# Altium footprint library WA-SMST.PcbLib: 54 footprints (part 4 of 4)
Each footprint in its own frame and in the unit in brackets; x right, y up, seen from the top. Pads: shape width x height; smd on the part's side, far side on the other; paste and mask are expansions set on the pad; w line width, h text height; cw(c..) or ccw(c..) is an arc to the next point about the centre after c.
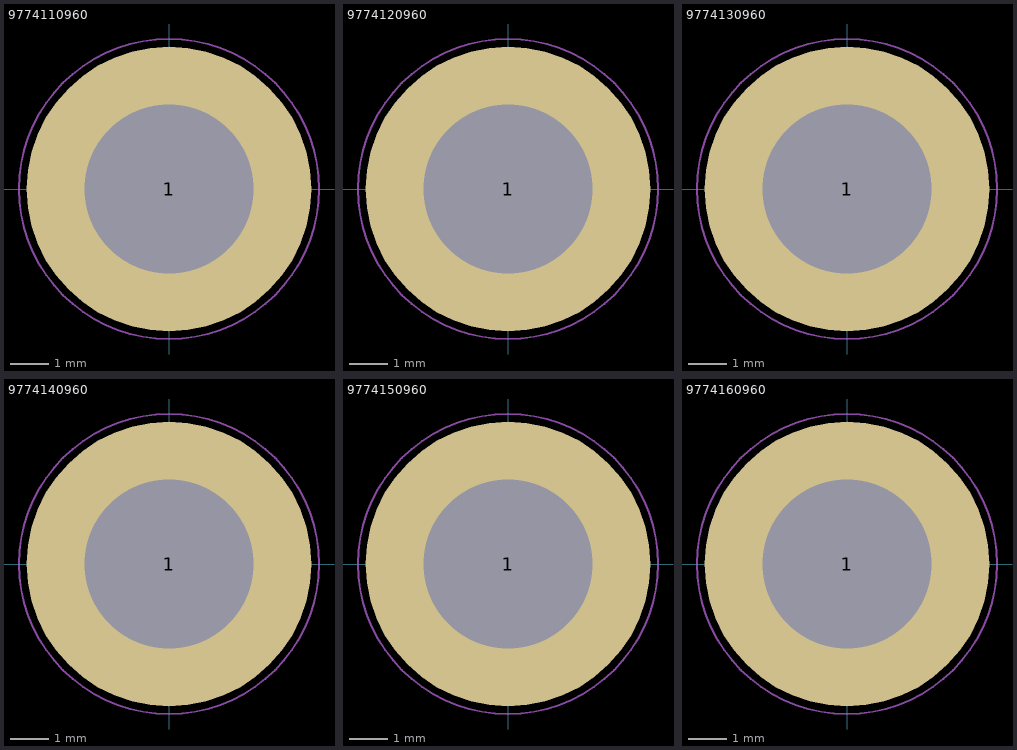
[diagram p3: the footprints below, top view; thin cyan lines are the x and y axes]

## 9774110960 [mm] "SMT Steel Spacer Internal hole diameter 3.3mm non stop, height 11mm"
height 11
pads (1):
  round 7.4 / inner round 0 / far side round 0 hole 4.4 unplated: 1(0,0)
Top Paste:
  region: -3.613,0.4 -2.204,0.4 -2.167,0.566 -2.057,0.886 -1.9,1.186 -1.699,1.46 -1.46,1.699 -1.186,1.9 -0.886,2.057 -0.566,2.167 -0.4,2.204 -0.4,3.613 -0.603,3.59 -1.003,3.5 -1.389,3.365 -1.759,3.188 -2.105,2.97 -2.426,2.715 -2.715,2.426 -2.97,2.105 -3.188,1.759 -3.365,1.389 -3.5,1.003 -3.59,0.603
  region: -0.4,-3.613 -0.4,-2.204 -0.566,-2.167 -0.886,-2.057 -1.186,-1.9 -1.46,-1.699 -1.699,-1.46 -1.9,-1.186 -2.057,-0.886 -2.167,-0.566 -2.204,-0.4 -3.613,-0.4 -3.59,-0.603 -3.5,-1.003 -3.365,-1.389 -3.188,-1.759 -2.97,-2.105 -2.715,-2.426 -2.426,-2.715 -2.105,-2.97 -1.759,-3.188 -1.389,-3.365 -1.003,-3.5 -0.603,-3.59
  region: 3.613,-0.4 2.204,-0.4 2.167,-0.566 2.057,-0.886 1.9,-1.186 1.699,-1.46 1.46,-1.699 1.186,-1.9 0.886,-2.057 0.566,-2.167 0.4,-2.204 0.4,-3.613 0.603,-3.59 1.003,-3.5 1.389,-3.365 1.759,-3.188 2.105,-2.97 2.426,-2.715 2.715,-2.426 2.97,-2.105 3.188,-1.759 3.365,-1.389 3.5,-1.003 3.59,-0.603
  region: 0.4,3.613 0.4,2.204 0.566,2.167 0.886,2.057 1.186,1.9 1.46,1.699 1.699,1.46 1.9,1.186 2.057,0.886 2.167,0.566 2.204,0.4 3.613,0.4 3.59,0.603 3.5,1.003 3.365,1.389 3.188,1.759 2.97,2.105 2.715,2.426 2.426,2.715 2.105,2.97 1.759,3.188 1.389,3.365 1.003,3.5 0.603,3.59
Top Designator:
  text ".Designator" at -7.498,-0.5 h1.5
Top Component Outline:
  circle w0.1: c0,0 r3
Top 3D Body:
  circle w0.1: c0,0 r3
Top Courtyard:
  circle w0.05: c0,0 r3.9
  lines w0.05: -0.5,0 0.5,0 ; 0,-0.5 0,0.5
3D body "9774110960.stp": height 11, standoff -1.4, extent -3,-3 3,3

## 9774120960 [mm] "SMT Steel Spacer Internal hole diameter 3.3mm non stop, height 12mm"
height 12
pads (1):
  round 7.4 / inner round 0 / far side round 0 hole 4.4 unplated: 1(0,0)
Top Paste:
  region: 0.4,3.613 0.4,2.204 0.566,2.167 0.886,2.057 1.186,1.9 1.46,1.699 1.699,1.46 1.9,1.186 2.057,0.886 2.167,0.566 2.204,0.4 3.613,0.4 3.59,0.603 3.5,1.003 3.365,1.389 3.188,1.759 2.97,2.105 2.715,2.426 2.426,2.715 2.105,2.97 1.759,3.188 1.389,3.365 1.003,3.5 0.603,3.59
  region: 3.613,-0.4 2.204,-0.4 2.167,-0.566 2.057,-0.886 1.9,-1.186 1.699,-1.46 1.46,-1.699 1.186,-1.9 0.886,-2.057 0.566,-2.167 0.4,-2.204 0.4,-3.613 0.603,-3.59 1.003,-3.5 1.389,-3.365 1.759,-3.188 2.105,-2.97 2.426,-2.715 2.715,-2.426 2.97,-2.105 3.188,-1.759 3.365,-1.389 3.5,-1.003 3.59,-0.603
  region: -0.4,-3.613 -0.4,-2.204 -0.566,-2.167 -0.886,-2.057 -1.186,-1.9 -1.46,-1.699 -1.699,-1.46 -1.9,-1.186 -2.057,-0.886 -2.167,-0.566 -2.204,-0.4 -3.613,-0.4 -3.59,-0.603 -3.5,-1.003 -3.365,-1.389 -3.188,-1.759 -2.97,-2.105 -2.715,-2.426 -2.426,-2.715 -2.105,-2.97 -1.759,-3.188 -1.389,-3.365 -1.003,-3.5 -0.603,-3.59
  region: -3.613,0.4 -2.204,0.4 -2.167,0.566 -2.057,0.886 -1.9,1.186 -1.699,1.46 -1.46,1.699 -1.186,1.9 -0.886,2.057 -0.566,2.167 -0.4,2.204 -0.4,3.613 -0.603,3.59 -1.003,3.5 -1.389,3.365 -1.759,3.188 -2.105,2.97 -2.426,2.715 -2.715,2.426 -2.97,2.105 -3.188,1.759 -3.365,1.389 -3.5,1.003 -3.59,0.603
Top Designator:
  text ".Designator" at -7.498,-0.5 h1.5
Top Component Outline:
  circle w0.1: c0,0 r3
Top 3D Body:
  circle w0.1: c0,0 r3
Top Courtyard:
  circle w0.05: c0,0 r3.9
  lines w0.05: -0.5,0 0.5,0 ; 0,-0.5 0,0.5
3D body "9774120960.stp": height 12, standoff -1.4, extent -3,-3 3,3

## 9774130960 [mm] "SMT Steel Spacer Internal hole diameter 3.3mm non stop, height 13mm"
height 13
pads (1):
  round 7.4 / inner round 0 / far side round 0 hole 4.4 unplated: 1(0,0)
Top Paste:
  region: 0.4,3.613 0.4,2.204 0.566,2.167 0.886,2.057 1.186,1.9 1.46,1.699 1.699,1.46 1.9,1.186 2.057,0.886 2.167,0.566 2.204,0.4 3.613,0.4 3.59,0.603 3.5,1.003 3.365,1.389 3.188,1.759 2.97,2.105 2.715,2.426 2.426,2.715 2.105,2.97 1.759,3.188 1.389,3.365 1.003,3.5 0.603,3.59
  region: 3.613,-0.4 2.204,-0.4 2.167,-0.566 2.057,-0.886 1.9,-1.186 1.699,-1.46 1.46,-1.699 1.186,-1.9 0.886,-2.057 0.566,-2.167 0.4,-2.204 0.4,-3.613 0.603,-3.59 1.003,-3.5 1.389,-3.365 1.759,-3.188 2.105,-2.97 2.426,-2.715 2.715,-2.426 2.97,-2.105 3.188,-1.759 3.365,-1.389 3.5,-1.003 3.59,-0.603
  region: -0.4,-3.613 -0.4,-2.204 -0.566,-2.167 -0.886,-2.057 -1.186,-1.9 -1.46,-1.699 -1.699,-1.46 -1.9,-1.186 -2.057,-0.886 -2.167,-0.566 -2.204,-0.4 -3.613,-0.4 -3.59,-0.603 -3.5,-1.003 -3.365,-1.389 -3.188,-1.759 -2.97,-2.105 -2.715,-2.426 -2.426,-2.715 -2.105,-2.97 -1.759,-3.188 -1.389,-3.365 -1.003,-3.5 -0.603,-3.59
  region: -3.613,0.4 -2.204,0.4 -2.167,0.566 -2.057,0.886 -1.9,1.186 -1.699,1.46 -1.46,1.699 -1.186,1.9 -0.886,2.057 -0.566,2.167 -0.4,2.204 -0.4,3.613 -0.603,3.59 -1.003,3.5 -1.389,3.365 -1.759,3.188 -2.105,2.97 -2.426,2.715 -2.715,2.426 -2.97,2.105 -3.188,1.759 -3.365,1.389 -3.5,1.003 -3.59,0.603
Top Designator:
  text ".Designator" at -7.498,-0.5 h1.5
Top Component Outline:
  circle w0.1: c0,0 r3
Top 3D Body:
  circle w0.1: c0,0 r3
Top Courtyard:
  circle w0.05: c0,0 r3.9
  lines w0.05: -0.5,0 0.5,0 ; 0,-0.5 0,0.5
3D body "9774130960.stp": height 13, standoff -1.4, extent -3,-3 3,3

## 9774140960 [mm] "SMT Steel Spacer Internal hole diameter 3.3mm non stop, height 14mm"
height 14
pads (1):
  round 7.4 / inner round 0 / far side round 0 hole 4.4 unplated: 1(0,0)
Top Paste:
  region: -3.613,0.4 -2.204,0.4 -2.167,0.566 -2.057,0.886 -1.9,1.186 -1.699,1.46 -1.46,1.699 -1.186,1.9 -0.886,2.057 -0.566,2.167 -0.4,2.204 -0.4,3.613 -0.603,3.59 -1.003,3.5 -1.389,3.365 -1.759,3.188 -2.105,2.97 -2.426,2.715 -2.715,2.426 -2.97,2.105 -3.188,1.759 -3.365,1.389 -3.5,1.003 -3.59,0.603
  region: -0.4,-3.613 -0.4,-2.204 -0.566,-2.167 -0.886,-2.057 -1.186,-1.9 -1.46,-1.699 -1.699,-1.46 -1.9,-1.186 -2.057,-0.886 -2.167,-0.566 -2.204,-0.4 -3.613,-0.4 -3.59,-0.603 -3.5,-1.003 -3.365,-1.389 -3.188,-1.759 -2.97,-2.105 -2.715,-2.426 -2.426,-2.715 -2.105,-2.97 -1.759,-3.188 -1.389,-3.365 -1.003,-3.5 -0.603,-3.59
  region: 3.613,-0.4 2.204,-0.4 2.167,-0.566 2.057,-0.886 1.9,-1.186 1.699,-1.46 1.46,-1.699 1.186,-1.9 0.886,-2.057 0.566,-2.167 0.4,-2.204 0.4,-3.613 0.603,-3.59 1.003,-3.5 1.389,-3.365 1.759,-3.188 2.105,-2.97 2.426,-2.715 2.715,-2.426 2.97,-2.105 3.188,-1.759 3.365,-1.389 3.5,-1.003 3.59,-0.603
  region: 0.4,3.613 0.4,2.204 0.566,2.167 0.886,2.057 1.186,1.9 1.46,1.699 1.699,1.46 1.9,1.186 2.057,0.886 2.167,0.566 2.204,0.4 3.613,0.4 3.59,0.603 3.5,1.003 3.365,1.389 3.188,1.759 2.97,2.105 2.715,2.426 2.426,2.715 2.105,2.97 1.759,3.188 1.389,3.365 1.003,3.5 0.603,3.59
Top Designator:
  text ".Designator" at -7.498,-0.5 h1.5
Top Component Outline:
  circle w0.1: c0,0 r3
Top 3D Body:
  circle w0.1: c0,0 r3
Top Courtyard:
  circle w0.05: c0,0 r3.9
  lines w0.05: -0.5,0 0.5,0 ; 0,-0.5 0,0.5
3D body "9774140960.stp": height 14, standoff -1.4, extent -3,-3 3,3

## 9774150960 [mm] "SMT Steel Spacer Internal hole diameter 3.3mm non stop, height 15mm"
height 15
pads (1):
  round 7.4 / inner round 0 / far side round 0 hole 4.4 unplated: 1(0,0)
Top Paste:
  region: 0.4,3.613 0.4,2.204 0.566,2.167 0.886,2.057 1.186,1.9 1.46,1.699 1.699,1.46 1.9,1.186 2.057,0.886 2.167,0.566 2.204,0.4 3.613,0.4 3.59,0.603 3.5,1.003 3.365,1.389 3.188,1.759 2.97,2.105 2.715,2.426 2.426,2.715 2.105,2.97 1.759,3.188 1.389,3.365 1.003,3.5 0.603,3.59
  region: 3.613,-0.4 2.204,-0.4 2.167,-0.566 2.057,-0.886 1.9,-1.186 1.699,-1.46 1.46,-1.699 1.186,-1.9 0.886,-2.057 0.566,-2.167 0.4,-2.204 0.4,-3.613 0.603,-3.59 1.003,-3.5 1.389,-3.365 1.759,-3.188 2.105,-2.97 2.426,-2.715 2.715,-2.426 2.97,-2.105 3.188,-1.759 3.365,-1.389 3.5,-1.003 3.59,-0.603
  region: -0.4,-3.613 -0.4,-2.204 -0.566,-2.167 -0.886,-2.057 -1.186,-1.9 -1.46,-1.699 -1.699,-1.46 -1.9,-1.186 -2.057,-0.886 -2.167,-0.566 -2.204,-0.4 -3.613,-0.4 -3.59,-0.603 -3.5,-1.003 -3.365,-1.389 -3.188,-1.759 -2.97,-2.105 -2.715,-2.426 -2.426,-2.715 -2.105,-2.97 -1.759,-3.188 -1.389,-3.365 -1.003,-3.5 -0.603,-3.59
  region: -3.613,0.4 -2.204,0.4 -2.167,0.566 -2.057,0.886 -1.9,1.186 -1.699,1.46 -1.46,1.699 -1.186,1.9 -0.886,2.057 -0.566,2.167 -0.4,2.204 -0.4,3.613 -0.603,3.59 -1.003,3.5 -1.389,3.365 -1.759,3.188 -2.105,2.97 -2.426,2.715 -2.715,2.426 -2.97,2.105 -3.188,1.759 -3.365,1.389 -3.5,1.003 -3.59,0.603
Top Designator:
  text ".Designator" at -7.498,-0.5 h1.5
Top Component Outline:
  circle w0.1: c0,0 r3
Top 3D Body:
  circle w0.1: c0,0 r3
Top Courtyard:
  circle w0.05: c0,0 r3.9
  lines w0.05: -0.5,0 0.5,0 ; 0,-0.5 0,0.5
3D body "9774150960.stp": height 15, standoff -1.4, extent -3,-3 3,3

## 9774160960 [mm] "SMT Steel Spacer Internal hole diameter 3.3mm non stop, height 16mm"
height 16
pads (1):
  round 7.4 / inner round 0 / far side round 0 hole 4.4 unplated: 1(0,0)
Top Paste:
  region: 0.4,3.613 0.4,2.204 0.566,2.167 0.886,2.057 1.186,1.9 1.46,1.699 1.699,1.46 1.9,1.186 2.057,0.886 2.167,0.566 2.204,0.4 3.613,0.4 3.59,0.603 3.5,1.003 3.365,1.389 3.188,1.759 2.97,2.105 2.715,2.426 2.426,2.715 2.105,2.97 1.759,3.188 1.389,3.365 1.003,3.5 0.603,3.59
  region: 3.613,-0.4 2.204,-0.4 2.167,-0.566 2.057,-0.886 1.9,-1.186 1.699,-1.46 1.46,-1.699 1.186,-1.9 0.886,-2.057 0.566,-2.167 0.4,-2.204 0.4,-3.613 0.603,-3.59 1.003,-3.5 1.389,-3.365 1.759,-3.188 2.105,-2.97 2.426,-2.715 2.715,-2.426 2.97,-2.105 3.188,-1.759 3.365,-1.389 3.5,-1.003 3.59,-0.603
  region: -0.4,-3.613 -0.4,-2.204 -0.566,-2.167 -0.886,-2.057 -1.186,-1.9 -1.46,-1.699 -1.699,-1.46 -1.9,-1.186 -2.057,-0.886 -2.167,-0.566 -2.204,-0.4 -3.613,-0.4 -3.59,-0.603 -3.5,-1.003 -3.365,-1.389 -3.188,-1.759 -2.97,-2.105 -2.715,-2.426 -2.426,-2.715 -2.105,-2.97 -1.759,-3.188 -1.389,-3.365 -1.003,-3.5 -0.603,-3.59
  region: -3.613,0.4 -2.204,0.4 -2.167,0.566 -2.057,0.886 -1.9,1.186 -1.699,1.46 -1.46,1.699 -1.186,1.9 -0.886,2.057 -0.566,2.167 -0.4,2.204 -0.4,3.613 -0.603,3.59 -1.003,3.5 -1.389,3.365 -1.759,3.188 -2.105,2.97 -2.426,2.715 -2.715,2.426 -2.97,2.105 -3.188,1.759 -3.365,1.389 -3.5,1.003 -3.59,0.603
Top Designator:
  text ".Designator" at -7.498,-0.5 h1.5
Top Component Outline:
  circle w0.1: c0,0 r3
Top 3D Body:
  circle w0.1: c0,0 r3
Top Courtyard:
  circle w0.05: c0,0 r3.9
  lines w0.05: -0.5,0 0.5,0 ; 0,-0.5 0,0.5
3D body "9774160960.stp": height 16, standoff -1.4, extent -3,-3 3,3